# Altium schematic symbol library 电解水杯V1.1_ZM_20210702.SCHLIB: 29 symbols
Pins are listed as number, name and electrical type; pins without a type are passive.

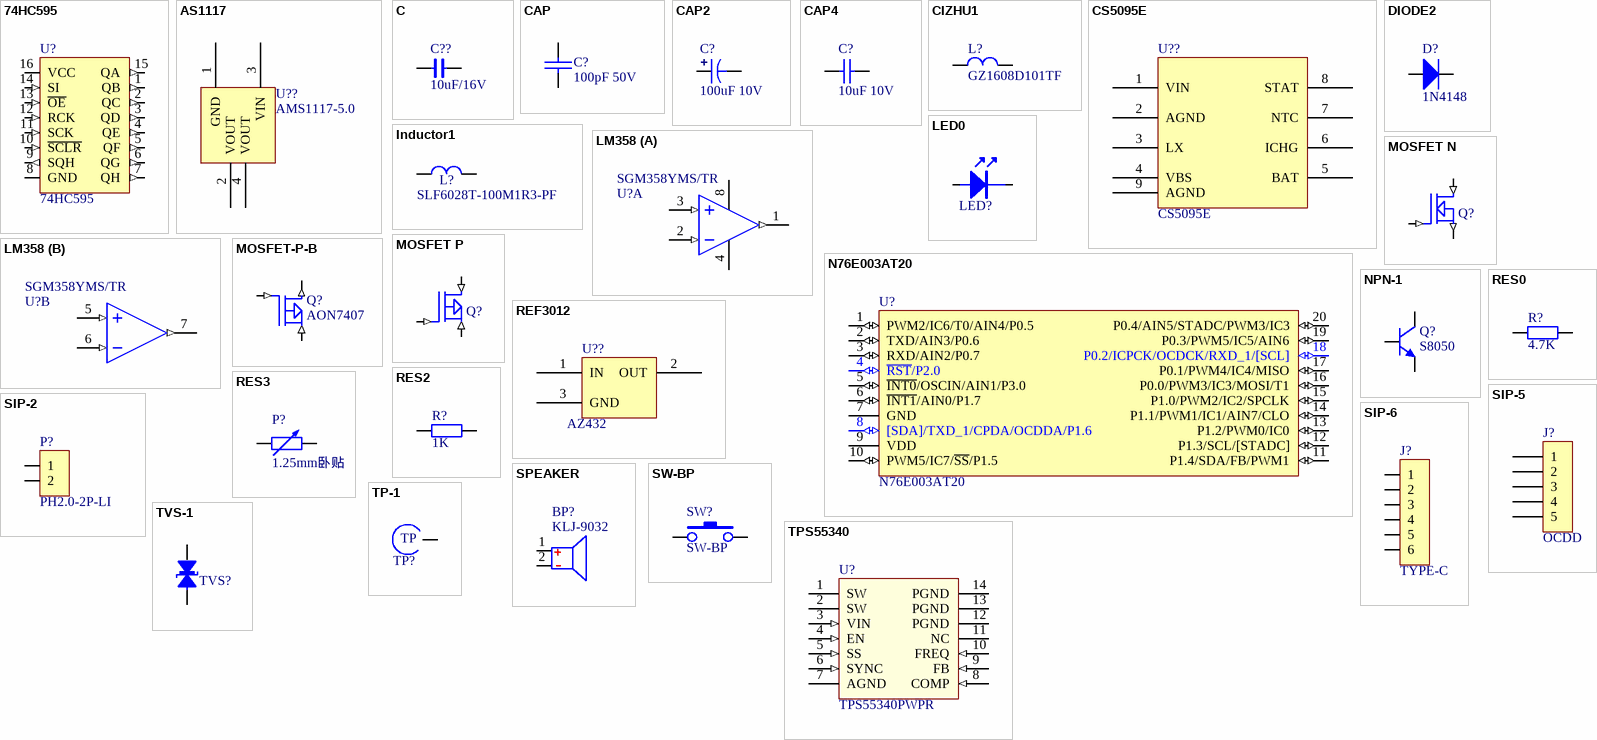
[diagram p0: symbols 74HC595 to TVS-1]

## 74HC595
designator U?
逻辑IC
footprint SOP-16 (SOIC, 16-Leads, Body 9.75x3.95mm, Pitch 1.27mm, IPC Medium Density)
footprint SSOP-16 (高密度SOP16)
pins: 1 QB (out), 2 QC (out), 3 QD (out), 4 QE (out), 5 QF (out), 6 QG (out), 7 QH (out), 8 GND (power), 9 SQH (out), 10 ~{SCLR} (in), 11 SCK (in), 12 RCK (in), 13 ~{OE} (in), 14 SI (in), 15 QA (out), 16 VCC (power)

## AS1117
designator U??, comment AMS1117-5.0
footprint SOT223
pins: 1 GND, 2 VOUT, 3 VIN, 4 VOUT

## C
designator C??, comment 10uF/16V
C
footprint 0805C
footprint 0805C
footprint C3
footprint C4
pins: 1, 2

## CAP
designator C?, comment 100pF 50V
贴片电容 10%
footprint SMD-0603C (贴片电容)
pins: 1, 2

## CAP2
designator C?, comment 100uF 10V
钽电容
footprint SMD-10*10.5 (35V 470uF)
footprint RB-.1/.3 (47uF 100uF 220uF 470uF)
footprint RB-.2/.4 (1000uF)
footprint RB-.3/.6
footprint SMD-3528-21 (Molded Capacitor, 2-Leads, Body 3.5x2.2mm, IPC Medium Density)
footprint SMD-3528-B (Molded Capacitor, 2-Leads, Body 3.5x2.2mm, IPC Medium Density)
footprint SMD-3216-10 (钽电容 0805大小 耐压10V 最大10uF)
pins: 1, 2

## CAP4
designator C?, comment 10uF 10V
贴片电容 10%
footprint SMD-0805C (0805贴片电容)
footprint SMD-0603C
pins: 1, 2

## CIZHU1
designator L?, comment GZ1608D101TF
贴片磁珠100R 100M
footprint SMD-0805 (贴片电阻)
footprint SMD-0603
pins: 1, 2

## CS5095E
designator U??
footprint SOP127P600X265_HS-9N (SOP, 8-Leads, Body 4.90x3.90mm, Pitch 1.27mm, Thermal Pad 3.40x2.52mm, IPC Medium Density)
pins: 1 VIN, 2 AGND, 3 LX, 4 VBS, 5 BAT, 6 ICHG, 7 NTC, 8 STAT, 9 AGND

## DIODE2
designator D?, comment 1N4148
小封装二极管
footprint DO-214 (Molded Diode, 2-Leads, Body 4.5x2.6mm, IPC Medium Density)
footprint SOD-123
footprint SMD-1206D (贴片二极管)
pins: 1 A, 2 K

## Inductor1
designator L?, comment SLF6028T-100M1R3-PF
10uH 1A
footprint SLF6208T (Precision Wire Wound Inductor, 2-Leads, Body 5.3x5.3mm, IPC Medium Density)
pins: 1, 2

## LED0
designator LED?, comment 蓝光 3528  (value not drawn)
LED 3528 蓝
footprint LED-0805
footprint LED-3528 (贴片二极管)
pins: 1, 2

## LM358
designator U?, comment SGM358YMS/TR
运放
footprint MSOP-8 (TSOP, 8-Leads, Body 3.1x3.1mm (max), Pitch 0.65mm, IPC Medium Density)
part A pins: 1 OUT1 (out), 2 IN1- (in), 3 IN1+ (in), 4 V- (power), 8 V+ (power)
part B pins: 5 IN2+ (in), 6 IN2- (in), 7 OUT2 (out)

## MOSFET N
designator Q?, comment AO3400  (value not drawn)
MOSFET N
footprint SOT-23
pins: 1 G (in), 2 S (out), 3 D (in)

## MOSFET P
designator Q?, comment AO3401  (value not drawn)
MOSFET P
footprint SOT-23
pins: 1 G (in), 2 D (in), 3 S (in)
2 alternate drawings of the same symbol

## MOSFET-P-B
designator Q?, comment AON7407
MOSFET-P
footprint SOIC-8 (中体积贴片)
footprint DFN3*3-8 (Footprint not found)
pins: 1 G (in), 2 D (out), 3 S (in)

## N76E003AT20
designator U?
新唐MCU
footprint TSSOP20 (20-pin, 4.40 mm body, 0.65)
pins: 1 PWM2/IC6/T0/AIN4/P0.5 (io), 2 TXD/AIN3/P0.6 (io), 3 RXD/AIN2/P0.7 (io), 4 ~{RST}/P2.0 (io), 5 ~{INT0}/OSCIN/AIN1/P3.0 (io), 6 ~{INT1}/AIN0/P1.7 (io), 7 GND (power), 8 [SDA]/TXD_1/CPDA/OCDDA/P1.6 (io), 9 VDD (power), 10 PWM5/IC7/~{SS}/P1.5 (io), 11 P1.4/SDA/FB/PWM1 (io), 12 P1.3/SCL/[STADC] (io), 13 P1.2/PWM0/IC0 (io), 14 P1.1/PWM1/IC1/AIN7/CLO (io), 15 P1.0/PWM2/IC2/SPCLK (io), 16 P0.0/PWM3/IC3/MOSI/T1 (io), 17 P0.1/PWM4/IC4/MISO (io), 18 P0.2/ICPCK/OCDCK/RXD_1/[SCL] (io), 19 P0.3/PWM5/IC5/AIN6 (io), 20 P0.4/AIN5/STADC/PWM3/IC3 (io)

## NPN-1
designator Q?, comment S8050
NPN
footprint SOT-23
pins: 1 B, 2 E, 3 C

## REF3012
designator U??, comment AZ432
footprint SOT23-3
pins: 1 IN, 2 OUT, 3 GND

## RES0
designator R?, comment 4.7K
贴片电阻 5%
footprint SMD-0805 (贴片电阻)
footprint SMD-1206 (贴片电阻)
footprint SMD-2010 (5.025MM 1/2W)
footprint SMD-2512 (6.432MM 1W)
footprint SMD-0603 (W1/32贴片电阻)
pins: 1, 2
2 alternate drawings of the same symbol

## RES2
designator R?, comment 1K
贴片电阻 1%
footprint SMD-0805 (2.012MM 1/8W)
footprint SMD-1206 (3.216MM 1/4W)
footprint SMD-1210 (3.225MM 1/4W)
footprint SMD-2010 (5.025MM 1/2W)
footprint SMD-2512 (6.432MM 1W)
footprint SMD-0603
pins: 1, 2

## RES3
designator P?, comment 1.25mm卧贴
卧贴
footprint SP2-1.25
pins: 1, 2
2 alternate drawings of the same symbol

## SIP-2
designator P?, comment PH2.0-2P-LI
间距2.0mm 立贴 2Pin
footprint PH2.0-2P-LI
footprint KF129-2 (插座KF129-0.5MM)
pins: 1, 2

## SIP-5
designator J?, comment OCDD
下载口(NC)
footprint sip-5
pins: 1, 2, 3, 4, 5

## SIP-6
designator J?, comment TYPE-C
USB 3.1 Type-C 2.0短体母座 6P贴片式
footprint sip-6
footprint USB-TYPE-C-6P (USN MINI)
pins: 1, 2, 3, 4, 5, 6

## SPEAKER
designator BP?, comment KLJ-9032
无源蜂鸣器 3.3V 频率2731
footprint SP9025 (嗡鸣器)
pins: 1 VCC, 2

## SW-BP
designator SW?
3*6*3.5侧贴按键(编带)
footprint PB-3*6*3.5侧 (3*6*2.5贴片按键)
pins: 1, 2

## TP-1
designator TP?, comment testpoint  (value not drawn)
测试点
footprint TP (Test Point)
pins: 1
text: TP

## TPS55340
designator U?, comment TPS55340PWPR
DCDC
footprint TSSOP-14 (TSOP, 14-Leads, Body 5.00x4.40mm, Pitch 0.65mm, Thermal Pad 2.31.2x2.46.2mm, IPC Medium Density)
pins: 1 SW (power), 2 SW (power), 3 VIN (in), 4 EN (in), 5 SS (in), 6 SYNC (in), 7 AGND (power), 8 COMP (in), 9 FB (in), 10 FREQ (in), 11 NC, 12 PGND (power), 13 PGND (power), 14 PGND (power)

## TVS-1
designator TVS?, comment ESD5Z5.0T1G  (value not drawn)
ESD二极管
footprint SOD-523 (贴片二极管)
pins: 1 A, 2 B